# Altium footprint library GCMPrototipo.PcbLib: 30 footprints (part 2 of 2)
Each footprint in its own frame and in the unit in brackets; x right, y up, seen from the top. Pads: shape width x height; smd on the part's side, far side on the other; paste and mask are expansions set on the pad; w line width, h text height; cw(c..) or ccw(c..) is an arc to the next point about the centre after c.
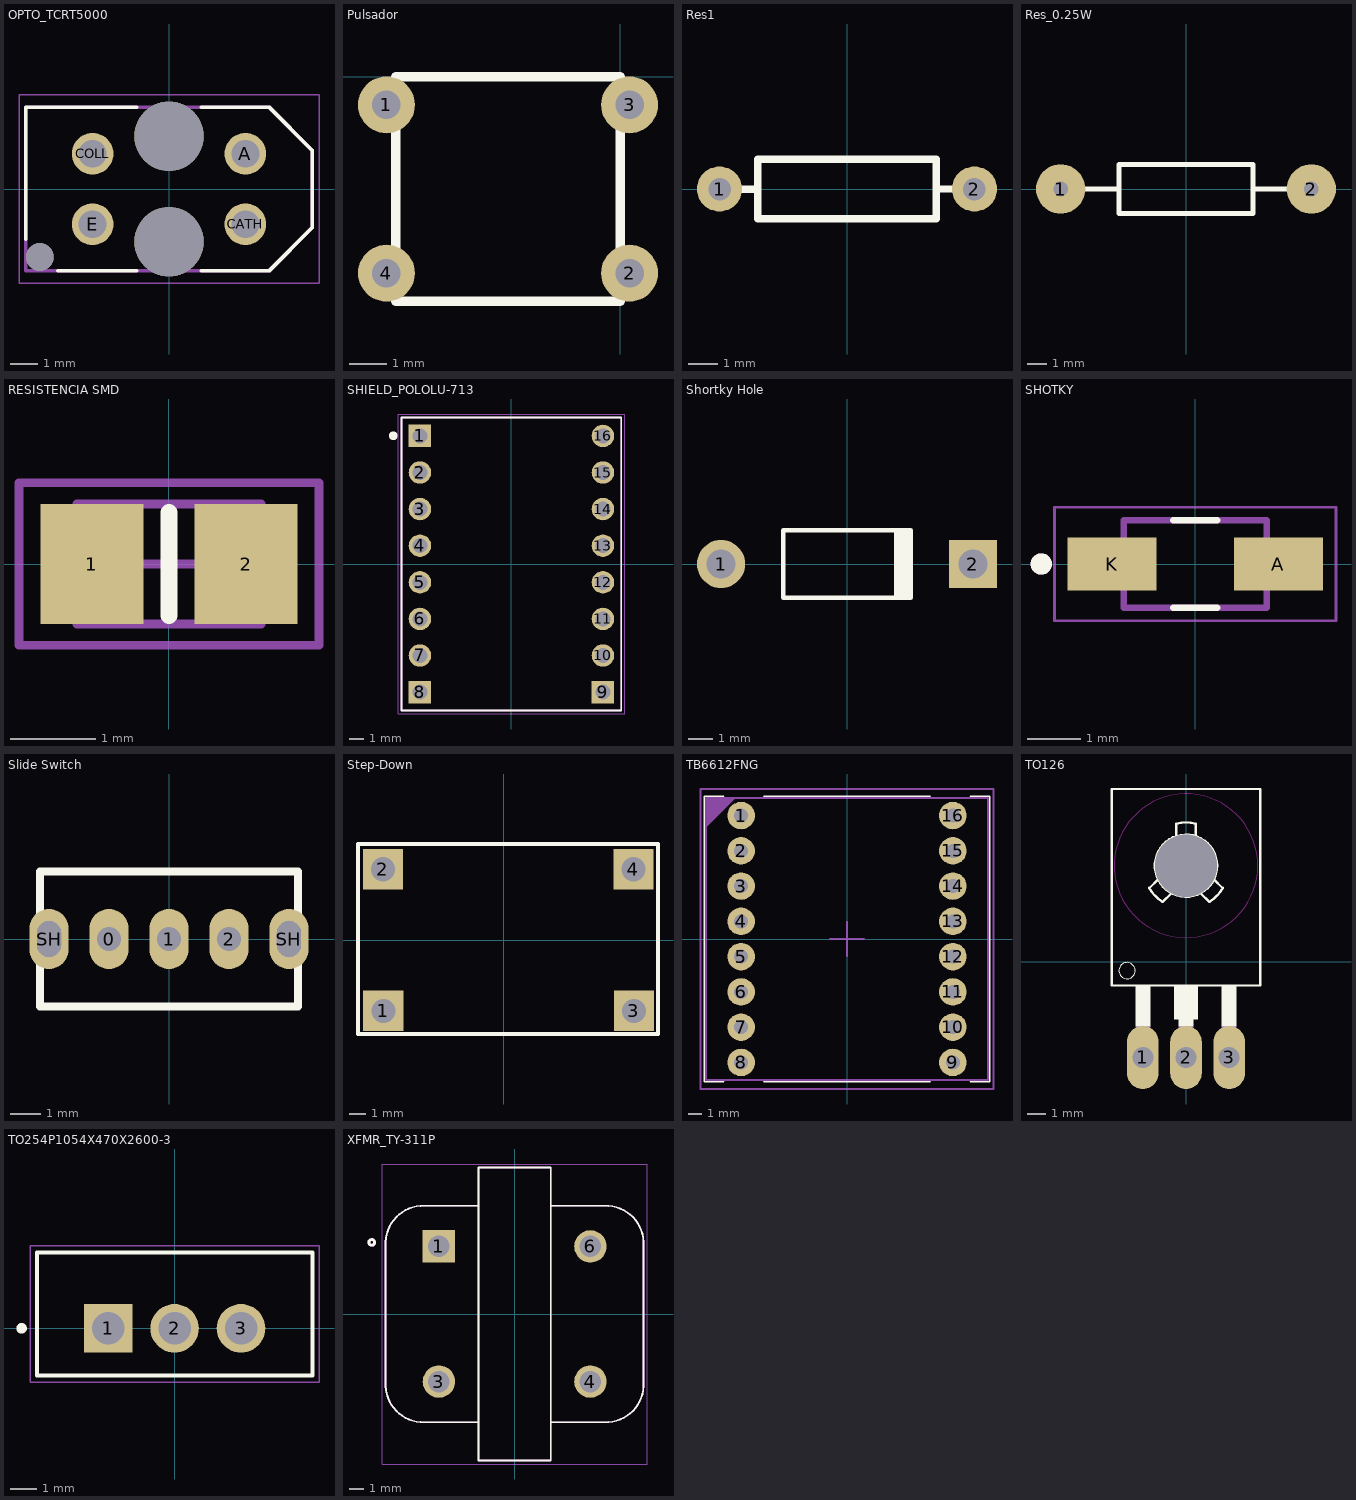
[diagram p1: the footprints below, top view; thin cyan lines are the x and y axes]

## OPTO_TCRT5000 [mm]
pads (7):
  round 1.5 hole 1: A(2.75,1.27) CATH(2.75,-1.27) COLL(-2.75,1.27) E(-2.75,-1.27)
  round 1 hole 1 unplated: ""(-4.65,-2.45)
  round 2.5 hole 2.5 unplated: ""(0,-1.9) ""(0,1.9)
Top Overlay:
  lines w0.127: -5.15,-1.8 -5.15,2.95 -1.17,2.95 ; -4,-2.95 -1.17,-2.95 ; 1.17,-2.95 3.6,-2.95 5.15,-1.4 5.15,1.4 3.6,2.95 1.17,2.95
Mechanical 13:
  lines w0.127: -5.15,-2.95 3.6,-2.95 5.15,-1.4 5.15,1.4 3.6,2.95 -5.15,2.95 -5.15,-2.95
Mechanical 15:
  lines w0.05: -5.4,-3.4 5.4,-3.4 5.4,3.4 -5.4,3.4 -5.4,-3.4

## Pulsador [mil]
pads (4):
  round 60 hole 30: 1(-246.06,-29.53) 2(9.84,-206.69) 3(9.84,-29.53) 4(-246.06,-206.69)
Top Overlay:
  lines w10: -236.22,-236.22 0,-236.22 0,0 -236.22,0 -236.22,-236.22

## Res1 [mil]
pads (2):
  round 60 hole 30: 1(-170,0) 2(170,0)
Top Overlay:
  lines w10: -170,0 -119.29,0 ; 120,0 170,0 ; -119.29,-39.37 -119.29,39.37 119.29,39.37 119.29,-39.37 -119.29,-39.37
3D body "3-1623927-1--3DModel-STEP-1.STEP": height 72.83, standoff -928.15, extent -145.86,-37.98 147.45,34.85

## Res_0.25W [mm]
pads (2):
  round 2.5 hole 0.75: 1(-6.35,0) 2(6.35,0)
Top Overlay:
  lines w0.254: -6.35,0 -3.4,0 ; 3.4,0 6.35,0 ; -3.4,-1.25 -3.4,1.25 3.4,1.25 3.4,-1.25 -3.4,-1.25

## RESISTENCIA SMD [mm] "0805"
height 0.7
pads (2):
  rect 1.2x1.4 smd: 1(-0.9,0) 2(0.9,0)
Top Overlay:
  lines w0.2: 0,-0.6 0,0.6
Mechanical 13:
  lines w0.1: -1.075,-0.7 -1.075,0.7 1.075,0.7 1.075,-0.7 -1.075,-0.7
Mechanical 15:
  lines w0.1: -0.5,0 0.5,0 ; 0,-0.5 0,0.5 ; -1.75,-0.95 -1.75,0.95 1.75,0.95 1.75,-0.95 -1.75,-0.95
3D body "ERA6AHD330V.STEP": height 0.6, standoff 0, extent -1,-0.61 1,0.64

## SHIELD_POLOLU-713 [mm]
pads (16):
  rect 1.56x1.56 hole 1.04: 1(-6.35,8.89) 8(-6.35,-8.89) 9(6.35,-8.89)
  round 1.56 hole 1.04: 2(-6.35,6.35) 3(-6.35,3.81) 4(-6.35,1.27) 5(-6.35,-1.27) 6(-6.35,-3.81) 7(-6.35,-6.35) 10(6.35,-6.35) 11(6.35,-3.81) 12(6.35,-1.27) 13(6.35,1.27) 14(6.35,3.81) 15(6.35,6.35) 16(6.35,8.89)
Top Overlay:
  circle w0.3: c-8.2,8.9 r0.15
  lines w0.127: -7.62,-10.16 -7.62,10.16 7.62,10.16 7.62,-10.16 -7.62,-10.16
Mechanical 13:
  lines w0.127: -7.62,-10.16 7.62,-10.16 7.62,10.16 -7.62,10.16 -7.62,-10.16
Mechanical 15:
  lines w0.05: -7.87,-10.41 -7.87,10.41 7.87,10.41 7.87,-10.41 -7.87,-10.41

## Shortky Hole [mm] "Diode, Axial; Body 5.2 x 2.7 mm (LxDia. max), Lead Dia. 0.86 mm (max)"
height 2.8
pads (2):
  round 2 hole 1.2: 1(-5.23,0)
  rect 2x2 hole 1.2: 2(5.23,0)
Top Overlay:
  rectangle: 1.95,-1.4 2.75,1.4
  lines w0.2: 2.65,-1.4 -2.65,-1.4 -2.65,1.4 2.65,1.4

## SHOTKY [mm]
pads (2):
  rect 1.68x1.01 smd: A(1.57,0) K(-1.57,0)
Top Overlay:
  circle w0.2: c-2.91,0 r0.1
  lines w0.127: -0.41,-0.825 0.41,-0.825 ; -0.41,0.825 0.41,0.825
Mechanical 13:
  circle w0.2: c-2.91,0 r0.1
  lines w0.127: -1.35,-0.825 -1.35,0.825 1.35,0.825 1.35,-0.825 -1.35,-0.825
Mechanical 15:
  lines w0.05: -2.66,-1.075 -2.66,1.075 2.66,1.075 2.66,-1.075 -2.66,-1.075
3D body "step_temp.STEP": height 0.98, standoff 0, extent -1.8,-0.825 1.8,0.825

## Slide Switch [mm]
pads (5):
  oval 1.3x2 hole 0.8: 0(-2,0) 1(0,0) 2(2,0)
  oval 1.3x2 hole 0.8 slot 1.2 at 90 deg: SH(-4,0) SH(4,0)
Top Overlay:
  lines w0.254: -4.3,-2.25 4.3,-2.25 4.3,2.25 -4.3,2.25 -4.3,-2.25
3D body "Vertical slide switch SS-12D00G3 High Knob 3mm SPDT v2.step": height 6.34, standoff -4.91, extent -4.28,-1.92 4.31,1.85

## Step-Down [mm]
pads (4):
  rect 2.5x2.5 hole 1.5 mask+0: 1(-7.468,-4.4) 2(-7.493,4.4) 3(8.103,-4.4) 4(8.077,4.4)
Top Overlay:
  lines w0.254: -9.042,-5.842 9.601,-5.842 9.601,5.969 -9.042,5.969 -9.042,-5.842
3D body "STEPV3.step": height 4, standoff 0, extent -8.195,-5.563 8.805,5.737

## TB6612FNG [mm]
pads (16):
  round 1.98 hole 1: 1(-7.62,8.89) 2(-7.62,6.35) 3(-7.62,3.81) 4(-7.62,1.27) 5(-7.62,-1.27) 6(-7.62,-3.81) 7(-7.62,-6.35) 8(-7.62,-8.89) 9(7.62,-8.89) 10(7.62,-6.35) 11(7.62,-3.81) 12(7.62,-1.27) 13(7.62,1.27) 14(7.62,3.81) 15(7.62,6.35) 16(7.62,8.89)
Top Overlay:
  lines w0.127: -8.89,-10.28 -10.275,-10.28 -10.275,10.28 -8.89,10.28 ; -6,-10.285 6,-10.285 ; -6,10.285 6,10.285 ; 8.89,-10.28 10.275,-10.28 10.275,10.28 8.89,10.28
Top Courtyard:
  lines w0.127: -1.25,0 1.25,0 ; 0,-1.25 0,1.25 ; -10.55,-10.8 -10.55,10.8 10.55,10.8 10.55,-10.8 -10.55,-10.8
Top Assembly:
  region: -8,10.16 -10.16,10.16 -10.16,8
  lines w0.127: -10.16,-10.16 -10.16,10.16 10.16,10.16 10.16,-10.16 -10.16,-10.16
3D body "TB6612FNG Module.STEP": height 6.12, standoff -5.99, extent -10.452,-10.28 10.452,10.7

## TO126 [mil]
pads (4):
  oval 66x132 hole 44: 1(-90,-200) 2(0,-200) 3(90,-200)
  round 130 hole 130 unplated: ""(0,200)
Top Overlay:
  circle w5: c0,200 r65
  circle w0: c-123,-19 r17
  region: 105,-135 75,-135 75,-50 105,-50
  region: 15,-135 -15,-135 -15,-50 15,-50
  region: -75,-135 -105,-135 -105,-50 -75,-50
  region: 25,-120 -25,-120 -25,-50 25,-50
  lines w5: -77.15,153.65 ccw(c0,200) -49.02,124.52 ; -76.74,152.98 -58.22,171.09 ; -48.79,124.37 -30.26,142.47 ; -20.25,287.69 cw(c0,200) 20.25,287.69 ; -20,261.85 -20,287.75 ; 20,261.85 20,287.75 ; 30.26,142.47 48.79,124.37 ; 49.02,124.52 ccw(c0,200) 77.15,153.65 ; 58.22,171.09 76.74,152.98 ; -155,-50 155,-50 155,360 -155,360 -155,-50
Keep-Out Layer:
  circle w0: c0,200 r150
  circle w0: c0,200 r150
Mechanical 13:
  region: 105,-205 75,-205 75,-135 105,-135
  region: 15,-205 -15,-205 -15,-135 15,-135
  region: -75,-205 -105,-205 -105,-135 -75,-135
  text "3" at 70,-35 h50
  text "2" at -20,-35 h50
  text "1" at -100,-35 h50
3D body "step_temp.STEP": height 519.68, standoff -545.28, extent -149.61,-59.65 149.61,44.69

## TO254P1054X470X2600-3 [mm]
pads (3):
  rect 1.86x1.86 / inner round 1.86 / far side rect 1.86x1.86 hole 1.24: 1(-2.54,0)
  round 1.86 hole 1.24: 2(0,0) 3(2.54,0)
Top Overlay:
  circle w0.2: c-5.85,0 r0.1
  lines w0.152: -5.27,-1.8 5.27,-1.8 5.27,2.9 -5.27,2.9 -5.27,-1.8
Mechanical 13:
  lines w0.127: -5.27,-1.8 5.27,-1.8 5.27,2.9 -5.27,2.9 -5.27,-1.8
Mechanical 15:
  lines w0.05: -5.52,-2.052 -5.52,3.148 5.52,3.148 5.52,-2.052 -5.52,-2.052
3D body "step_temp.STEP": height 20.4, standoff -9.94, extent -5.08,-1.667 5.08,2.683

## XFMR_TY-311P [mil]
pads (4):
  rect 90x90 / inner round 90 / far side rect 90x90 hole 60: 1(-210,187.5)
  round 90 hole 60: 3(-210,-187.5) 4(210,-187.5) 6(210,187.5)
Top Overlay:
  circle w7.87: c-396.06,198.43 r7.87
  circle w7.87: c-396.06,198.43 r7.87
  circle w7.87: c-396.06,198.43 r7.87
  circle w7.87: c-396.06,198.43 r7.87
  lines w5: -357.5,-199.87 ccw(c-253.75,-196.25) -250.13,-300 ; -357.5,-199.87 ccw(c-253.75,-196.25) -250.13,-300 ; -357.5,-199.87 ccw(c-253.75,-196.25) -250.13,-300 ; -357.5,-199.87 ccw(c-253.75,-196.25) -250.13,-300 ; -357.5,199.87 cw(c-253.75,196.25) -250.13,300 ; -357.5,199.87 cw(c-253.75,196.25) -250.13,300 ; -357.5,199.87 cw(c-253.75,196.25) -250.13,300 ; -357.5,199.87 cw(c-253.75,196.25) -250.13,300 ; -100,-406 100,-406 ; -100,-406 -100,-300 ; -100,-406 100,-406 ; -100,-406 -100,-300 ; -100,-300 -100,300 ; -100,-300 -250,-300 -100,-300 ; -100,-300 -100,300 ; -100,300 -100,406 ; -100,300 -250,300 -100,300 ; -100,300 -100,406 ; -100,406 100,406 ; -100,406 100,406 ; 100,-406 100,-300 ; 100,-406 100,-300 ; 100,-300 100,300 ; 100,-300 250,-300 100,-300 ; 100,-300 100,300 ; 100,300 100,406 ; 100,300 250,300 100,300 ; 100,300 100,406 ; 250.13,-300 ccw(c253.75,-196.25) 357.5,-199.87 ; 250.13,-300 ccw(c253.75,-196.25) 357.5,-199.87 ; 250.13,-300 ccw(c253.75,-196.25) 357.5,-199.87 ; 250.13,-300 ccw(c253.75,-196.25) 357.5,-199.87 ; 250.13,300 cw(c253.75,196.25) 357.5,199.87 ; 250.13,300 cw(c253.75,196.25) 357.5,199.87 ; 250.13,300 cw(c253.75,196.25) 357.5,199.87 ; 250.13,300 cw(c253.75,196.25) 357.5,199.87 ; -357.5,-200 -357.5,200 -357.5,-200 ; 357.5,-200 357.5,200 357.5,-200
Mechanical 13:
  circle w7.87: c-396.06,198.43 r7.87
  circle w7.87: c-396.06,198.43 r7.87
  circle w7.87: c-396.06,198.43 r7.87
  circle w7.87: c-396.06,198.43 r7.87
  lines w5: -357.5,-199.87 ccw(c-253.75,-196.25) -250.13,-300 ; -357.5,-199.87 ccw(c-253.75,-196.25) -250.13,-300 ; -357.5,-199.87 ccw(c-253.75,-196.25) -250.13,-300 ; -357.5,-199.87 ccw(c-253.75,-196.25) -250.13,-300 ; -357.5,199.87 cw(c-253.75,196.25) -250.13,300 ; -357.5,199.87 cw(c-253.75,196.25) -250.13,300 ; -357.5,199.87 cw(c-253.75,196.25) -250.13,300 ; -357.5,199.87 cw(c-253.75,196.25) -250.13,300 ; -100,-406 100,-406 ; -100,-406 -100,-300 ; -100,-406 100,-406 ; -100,-406 -100,-300 ; -100,-300 -100,300 ; -100,-300 -250,-300 -100,-300 ; -100,-300 -100,300 ; -100,300 -100,406 ; -100,300 -250,300 -100,300 ; -100,300 -100,406 ; -100,406 100,406 ; -100,406 100,406 ; 100,-406 100,-300 ; 100,-406 100,-300 ; 100,-300 100,300 ; 100,-300 250,-300 100,-300 ; 100,-300 100,300 ; 100,300 100,406 ; 100,300 250,300 100,300 ; 100,300 100,406 ; 250.13,-300 ccw(c253.75,-196.25) 357.5,-199.87 ; 250.13,-300 ccw(c253.75,-196.25) 357.5,-199.87 ; 250.13,-300 ccw(c253.75,-196.25) 357.5,-199.87 ; 250.13,-300 ccw(c253.75,-196.25) 357.5,-199.87 ; 250.13,300 cw(c253.75,196.25) 357.5,199.87 ; 250.13,300 cw(c253.75,196.25) 357.5,199.87 ; 250.13,300 cw(c253.75,196.25) 357.5,199.87 ; 250.13,300 cw(c253.75,196.25) 357.5,199.87 ; -357.5,-200 -357.5,200 -357.5,-200 ; 357.5,-200 357.5,200 357.5,-200
Mechanical 15:
  lines w1.97: -367.34,-415.84 367.34,-415.84 367.34,415.84 -367.34,415.84 -367.34,-415.84
3D body "step_temp.STEP": height 650, standoff -240, extent -365,-406 365,406